# Altium footprint library PCB_SDR.PcbLib: 49 footprints (part 2 of 4)
Each footprint in its own frame and in the unit in brackets; x right, y up, seen from the top. Pads: shape width x height; smd on the part's side, far side on the other; paste and mask are expansions set on the pad; w line width, h text height; cw(c..) or ccw(c..) is an arc to the next point about the centre after c.
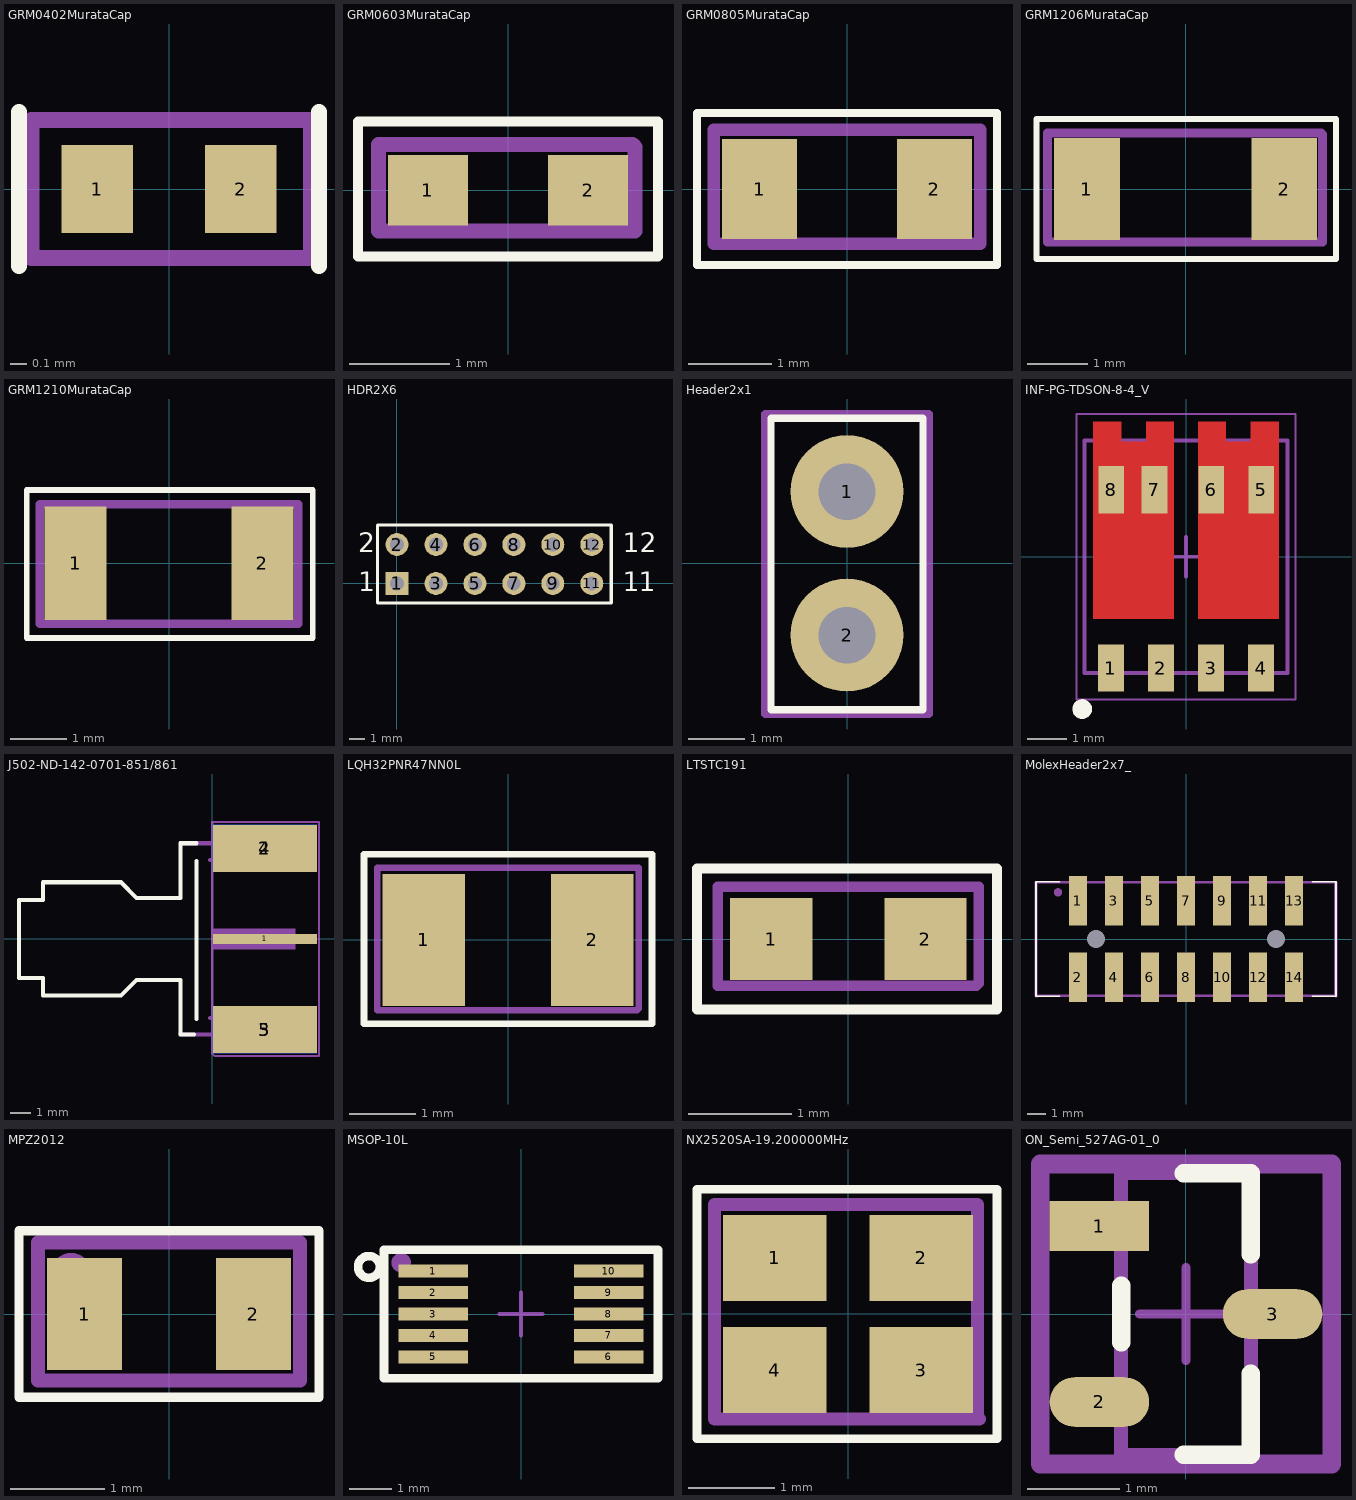
[diagram p1: the footprints below, top view; thin cyan lines are the x and y axes]

## GRM0402MurataCap [mm]
pads (2):
  rect 0.45x0.55 smd: 1(-0.45,0) 2(0.45,0)
Top Overlay:
  lines w0.102: -0.94,-0.483 -0.94,0.483 ; 0.94,-0.483 0.94,0.483
Mechanical 16:
  lines w0.102: -0.864,-0.432 -0.864,0.432 0.889,0.432 0.889,-0.432 -0.864,-0.432
Mechanical 29:
  text ".Designator" at -0.66,-0.127 h0.38
3D body "User Library-SMD CAPACITOR0402.STEP": height 0.46, standoff -0.04, extent -0.5,-0.25 0.5,0.25

## GRM0603MurataCap [mm]
pads (2):
  rect 0.8x0.7 smd: 1(-0.8,0) 2(0.8,0)
Top Overlay:
  lines w0.1: -1.499,-0.66 1.499,-0.66 1.499,0.686 -1.499,0.686 -1.499,-0.66
Mechanical 16:
  lines w0.15: -1.295,-0.406 -1.295,0.457 1.245,0.457 1.27,0.432 1.27,-0.406 -1.295,-0.406
Mechanical 29:
  text ".Designator" at -0.838,-0.127 h0.38
3D body "User Library-SMD CAPACITOR0603.STEP": height 0.79, standoff -0.01, extent -0.8,-0.4 0.8,0.4

## GRM0805MurataCap [mm]
pads (2):
  rect 0.9x1.2 smd: 1(-1.05,0) 2(1.05,0)
Top Overlay:
  lines w0.1: -1.803,-0.914 -1.803,0.914 1.803,0.914 1.803,-0.914 -1.803,-0.914
Mechanical 16:
  lines w0.15: -1.6,-0.66 -1.6,0.711 1.295,0.711 1.6,0.711 1.6,-0.66 1.27,-0.66 -1.6,-0.66
Mechanical 29:
  text ".Designator" at -0.864,-0.127 h0.38
3D body "User Library-SMD CAPACITOR0805.STEP": height 0.59, standoff -0.01, extent -0.95,-0.625 1.05,0.625

## GRM1206MurataCap [mm]
pads (2):
  rect 1.1x1.7 smd: 1(-1.65,0) 2(1.65,0)
Top Overlay:
  lines w0.1: -2.489,-1.168 -2.489,1.168 2.515,1.168 2.515,-1.168 -2.489,-1.168
Mechanical 16:
  lines w0.15: -2.311,-0.889 -2.311,0.94 2.261,0.94 2.286,0.914 2.286,-0.889 -2.311,-0.889
Mechanical 29:
  text ".Designator" at -0.838,-0.102 h0.38
3D body "User Library-SMD CAPACITOR1206.STEP": height 0.78, standoff 0, extent -1.6,-0.8 1.6,0.8

## GRM1210MurataCap [mm]
pads (2):
  rect 1.1x2 smd: 1(-1.65,0) 2(1.65,0)
Top Overlay:
  lines w0.1: -2.515,-1.321 -2.515,1.295 2.54,1.295 2.54,-1.321 -2.515,-1.321
Mechanical 16:
  lines w0.15: -2.286,-1.067 2.286,-1.067 2.286,1.041 -2.286,1.041 -2.286,-1.067
Mechanical 29:
  text ".Designator" at -0.762,-0.127 h0.38
3D body "User Library-SMD CAPACITOR1210.STEP": height 0.78, standoff 0, extent -1.6,-1.25 1.6,1.25

## HDR2X6 [mm]
pads (12):
  rect 1.5x1.5 hole 0.9: 1(0,0)
  round 1.5 hole 0.9: 2(0,2.54) 3(2.54,0) 4(2.54,2.54) 5(5.08,0) 6(5.08,2.54) 7(7.62,0) 8(7.62,2.54) 9(10.16,0) 10(10.16,2.54) 11(12.7,0) 12(12.7,2.54)
Top Overlay:
  lines w0.2: -1.27,-1.27 -1.27,3.81 13.97,3.81 13.97,-1.27 -1.27,-1.27
  text "2" at -2.54,2.032 h1.27
  text "1" at -2.54,-0.508 h1.27
  text "1" at 14.732,-0.508 h1.27
  text "1" at 15.748,-0.508 h1.27
  text "12" at 14.732,2.032 h1.27

## Header2x1 [mm]
pads (2):
  round 2 hole 1: 1(0,1.27) 2(0,-1.27)
Top Overlay:
  lines w0.127: -1.346,-2.591 -1.346,2.565 1.346,2.565 1.346,-2.591 -1.346,-2.591
Mechanical 16:
  lines w0.15: -1.448,-2.667 1.448,-2.667 1.448,2.642 -1.448,2.642 -1.448,-2.667
Mechanical 29:
  text ".Designator" at 0.229,-1.956 h0.51
3D body "User Library-HEADER 2x1 Pitch 2_54x2_54.STEP": height 7.11, standoff -4.19, extent -1.27,-2.565 1.27,2.515

## INF-PG-TDSON-8-4_V [mm]
pads (8):
  rect 0.65x1.2 smd: 1(-1.905,-2.825) 2(-0.635,-2.825) 3(0.635,-2.825) 4(1.905,-2.825) 5(1.91,1.7) 6(0.64,1.7) 7(-0.8,1.7) 8(-1.9,1.7)
Top Layer:
  region: 2.35,3.425 1.65,3.425 1.65,2.925 1.015,2.925 1.015,3.425 0.315,3.425 0.315,-1.575 2.35,-1.575
  region: -2.35,3.425 -1.65,3.425 -1.65,2.925 -1.015,2.925 -1.015,3.425 -0.315,3.425 -0.315,-1.575 -2.35,-1.575
Top Overlay:
  circle w0.25: c-2.635,-3.868 r0.125
Mechanical 13:
  lines w0.1: -2.575,-2.95 2.575,-2.95 2.575,2.95 -2.575,2.95 -2.575,-2.95
Mechanical 15:
  lines w0.05: -2.775,-3.625 2.775,-3.625 2.775,3.625 -2.775,3.625 -2.775,-3.625
  lines w0.1: -0.5,0 0.5,0 ; 0,-0.5 0,0.5
3D body: height 1, standoff 0.25, extent -2.575,-2.95 2.575,2.95

## J502-ND-142-0701-851/861 [mil]
pads (5):
  rect 200x19.68 smd: 1(101,0)
  rect 200x90 smd: 2(101,174) 3(101,-174)
  rect 200x90 smd far side: 4(101,174) 5(101,-174)
Top Overlay:
  lines w8: -35,-183.07 -61.02,-183.07 -61.02,-78.74 -145.67,-78.74 -175.2,-108.27 -324.8,-108.27 -324.8,-74.8 -371.06,-74.8 -371.06,75 -324.8,75 -324.8,109 -175.2,109 -145.67,79 -61.02,79 -61.02,184 -30,184 ; -30,-153.57 -30,150
Mechanical 1:
  lines w0: 0,-220 0,220
Mechanical 2:
Mechanical 4:
Mechanical 16:
  rectangle: -0.98,-19.68 160,20
  lines w3.94: 0,-220 0,225 205,225 205,-225 5,-225 0,-220
  lines w8: -61.02,-183.07 184,-183.07 184,-151.57 -3.94,-151.57 ; -61.02,184 184,184 184,152 -3.94,152
Mechanical 29:
  text ".Designator" at 115,-145 h60
3D body "dr-3d-CSS-JOHN-142-0701-851.stp": height 156, standoff -156, extent -375,-187.5 187,187.5

## LQH32PNR47NN0L [mm]
pads (2):
  rect 1.25x2 smd: 1(-1.275,0) 2(1.275,0)
Top Overlay:
  lines w0.1: -2.184,-1.27 -2.184,1.295 2.184,1.295 2.184,-1.27 -2.184,-1.27
Mechanical 16:
  lines w0.1: 1.956,-1.067 -1.981,-1.067 -1.981,1.092 1.981,1.092 1.981,-1.041
Mechanical 29:
  text ".Designator" at -1.473,-0.279 h0.76
3D body "User Library-LQH32PN_sw.STEP": height 1.55, standoff 0, extent -1.6,-1.25 1.6,1.25

## LTSTC191 [mm]
pads (2):
  rect 0.8x0.8 smd: 1(-0.75,0) 2(0.75,0)
Top Overlay:
  lines w0.1: -1.473,-0.686 -1.473,0.686 1.448,0.686 1.448,-0.686 -1.473,-0.686
Mechanical 16:
  lines w0.102: -1.27,-0.457 -1.27,0.508 1.27,0.508 1.27,-0.432 1.245,-0.457 -1.27,-0.457
Mechanical 29:
  text ".Designator" at -1.041,-0.127 h0.38
3D body "User Library-LTST-C193KRKT.STEP": height 0.35, standoff 0, extent -0.79,-0.4 0.8,0.4

## MolexHeader2x7_ [mm]
pads (16):
  rect 1x2.75 smd: 1(-6,2.125) 2(-6,-2.125) 3(-4,2.125) 4(-4,-2.125) 5(-2,2.125) 6(-2,-2.125) 7(0,2.125) 8(0,-2.125) 9(2,2.125) 10(2,-2.125) 11(4,2.125) 12(4,-2.125) 13(6,2.125) 14(6,-2.125)
  round 0 hole 1 unplated: 16(5,0) 17(-5,0)
Top Overlay:
  lines w0.1: -7.01,-3.175 -8.325,-3.175 -8.325,3.175 -7.01,3.175 ; 7.01,-3.175 8.325,-3.175 8.325,3.175 7.01,3.175
Mechanical 16:
  circle w0.254: c-7.112,2.591 r0.102
  lines w0.15: -8.306,-3.175 -8.331,-3.15 ; 8.331,-3.175 8.331,3.124 ; -8.331,-3.15 8.306,-3.15 8.306,3.15 -8.331,3.15 -8.331,-3.15
Mechanical 29:
  text ".Designator" at -3.226,-0.457 h1.52
3D body "878321420.stp": height 7.6, standoff -0.75, extent -8.382,-3.15 8.268,3.15

## MPZ2012 [mm]
pads (2):
  rect 0.8x1.2 smd: 1(-0.9,0) 2(0.9,0)
Top Overlay:
  lines w0.1: -1.6,-0.889 1.6,-0.889 1.6,0.889 -1.6,0.889 -1.6,-0.889
Mechanical 16:
  lines w0.15: -1.397,-0.711 -1.397,0.762 1.397,0.762 1.397,-0.711 -1.397,-0.711
  lines w0.254: -0.957,0.468 ccw(c-1.041,0.432) -0.951,0.447
Mechanical 29:
  text ".Designator" at -0.686,-0.178 h0.51
3D body "User Library-FB_2012.STEP": height 0.85, standoff 0, extent -1,-0.625 1,0.625

## MSOP-10L [mil]
pads (10):
  rect 64x12 smd: 1(-80.71,39.37) 2(-80.71,19.69) 3(-80.71,0) 4(-80.71,-19.68) 5(-80.71,-39.37) 6(80.71,-39.37) 7(80.71,-19.68) 8(80.71,0) 9(80.71,19.69) 10(80.71,39.37)
Top Overlay:
  circle w7.87: c-139.92,43.31 r10
  lines w7.87: -125.98,-59.06 125.98,-59.06 125.98,59.06 -125.98,59.06 -125.98,-59.06
Mechanical 15:
  lines w3.94: -125.98,-59.06 -125.98,59.06 ; -19.69,0 19.68,0 ; 0,-19.69 0,19.68 ; 125.98,-59.06 125.98,59.06
  lines w4: -125.98,-59.06 125.98,-59.06 ; -125.98,59.06 125.98,59.06
Mechanical 16:
  lines w5.91: -125.98,-59.06 125.98,-59.06 125.98,59.06 -125.98,59.06 -125.98,-59.06
  lines w10: -106.71,45.48 cw(c-110.24,47.24) -106.3,47.24
Mechanical 29:
  text ".Designator" at -90.55,-15.75 h40
3D body "WE-TVS_Super_Speed_MSOP-10L.stp": height 36.52, standoff -1.87, extent -96.45,-59.06 96.46,59.05

## NX2520SA-19.200000MHz [mm]
pads (4):
  rect 1.2x1 smd: 1(-0.85,0.65) 2(0.85,0.65) 3(0.85,-0.65) 4(-0.85,-0.65)
Top Overlay:
  lines w0.1: -1.753,-1.448 -1.753,1.448 1.727,1.448 1.727,-1.448 -1.753,-1.448
Mechanical 16:
  lines w0.15: 1.499,-1.194 1.499,1.27 -1.549,1.27 -1.549,-1.219 1.524,-1.219
  lines w0.254: -1.119,1.003 cw(c-1.194,0.991) -1.118,0.991
Mechanical 29:
  text ".Designator" at -0.914,-0.229 h0.76
3D body "User Library-Crystal NDK NX2520SA series.STEP": height 0.55, standoff 0, extent -1.3,-1.05 1.3,1.05

## ON_Semi_527AG-01_0 [mm]
pads (3):
  rect 1.075x0.538 smd paste+0 mask+0: 1(-0.935,0.95)
  oval 1.075x0.538 smd paste+0 mask+0: 2(-0.935,-0.95) 3(0.935,0)
Top Overlay:
  lines w0.2: -0.7,-0.306 -0.7,0.306 ; -0.023,-1.52 0.7,-1.52 0.7,-0.644 ; -0.023,1.52 0.7,1.52 0.7,0.644
Mechanical 10:
  lines w0.2: -1.572,-1.62 1.572,-1.62 1.572,1.62 -1.572,1.62 -1.572,-1.62
  text ".Designator" at 0,0 h1
Mechanical 12:
  lines w0.15: -0.7,-1.52 0.7,-1.52 0.7,1.52 -0.7,1.52 -0.7,-1.52
Mechanical 15:
  lines w0.1: -0.5,0 0.5,0 ; 0,-0.5 0,0.5
  lines w0.2: -1.572,-1.62 1.572,-1.62 1.572,1.62 -1.572,1.62 -1.572,-1.62
3D body "Trans_ON_Semi_NDS331N_eec.STEP": height 0.25, standoff 0, extent -1.572,-1.62 1.572,1.62